# EAGLE library part LOGIC_CONVER_4CH (library kxn_Standard_module_ForTutorial)
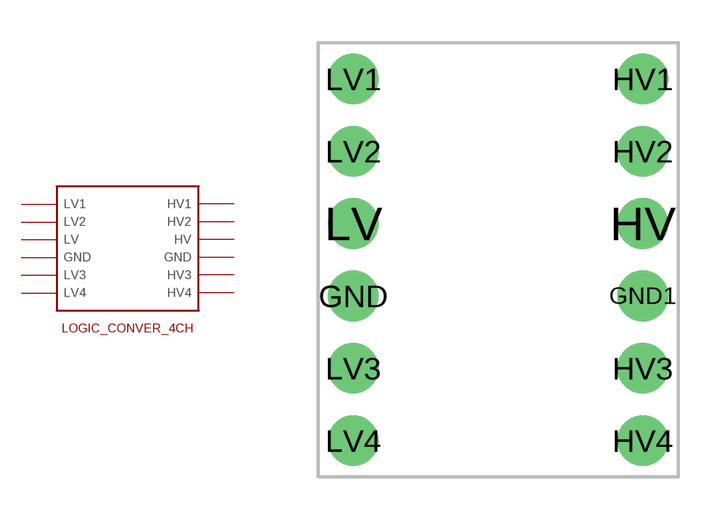
[diagram p1: symbol with the pads of LOGIC_CONVERT_4CH_FET; footprint LOGIC_CONVERT_4CH_FET]

Designator prefix -

## LOGIC_CONVER_4CH_FET_J1  [LOGIC_CONVERT_4CH_FET]
GND  GND
GND1  GND2
HV  HV
HV1  HV1
HV2  HV2
HV3  HV3
HV4  HV4
LV  LV
LV1  LV1
LV2  LV2
LV3  LV3
LV4  LV4

## Footprint LOGIC_CONVERT_4CH_FET (pad centres in mm)
drill 0.8 pad 1.778: GND -5.08,-1.27; GND1 5.08,-1.27; HV 5.08,1.27; HV1 5.08,6.35; HV2 5.08,3.81; HV3 5.08,-3.81; HV4 5.08,-6.35; LV -5.08,1.27; LV1 -5.08,6.35; LV2 -5.08,3.81; LV3 -5.08,-3.81; LV4 -5.08,-6.35